# Altium schematic symbol library GasSensors.SchLib: 1 symbol
Pins are listed as number, name and electrical type; pins without a type are passive.

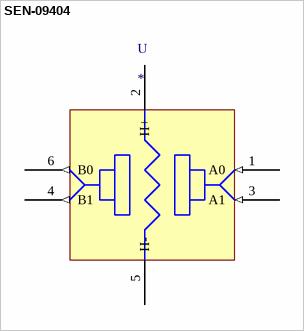
[diagram p0: symbol SEN-09404]

## SEN-09404
designator U
Sensitive material of MQ-4 gas sensor is SnO2, which / with lower conductivity in clean air. When the target / flammable gas exist, the sensor’s conductivity gets / higher along with the gas concentration rising. Users / can convert the change of conductivity to correspond / output signal of gas concentration through a simple / circuit. / MQ-4 gas sensor has high sensitivity to methane, also / has anti-interference to alcohol and other gases.; ComponentLink1Description: Datasheet; ComponentLink1URL: https://cdn.sparkfun.com/datasheets/Sensors/Biometric/MQ-4%20Ver1.3%20-%20Manual.pdf
pins: 1 A0 (in) "Sensor 1 pwr", 2 H+ (power), 3 A1 (in), 4 B1 (out), 5 H- (power), 6 B0 (out)